# Altium integrated library National Semiconductor Switcher.IntLib: 2226 symbols (part 25 of 59)
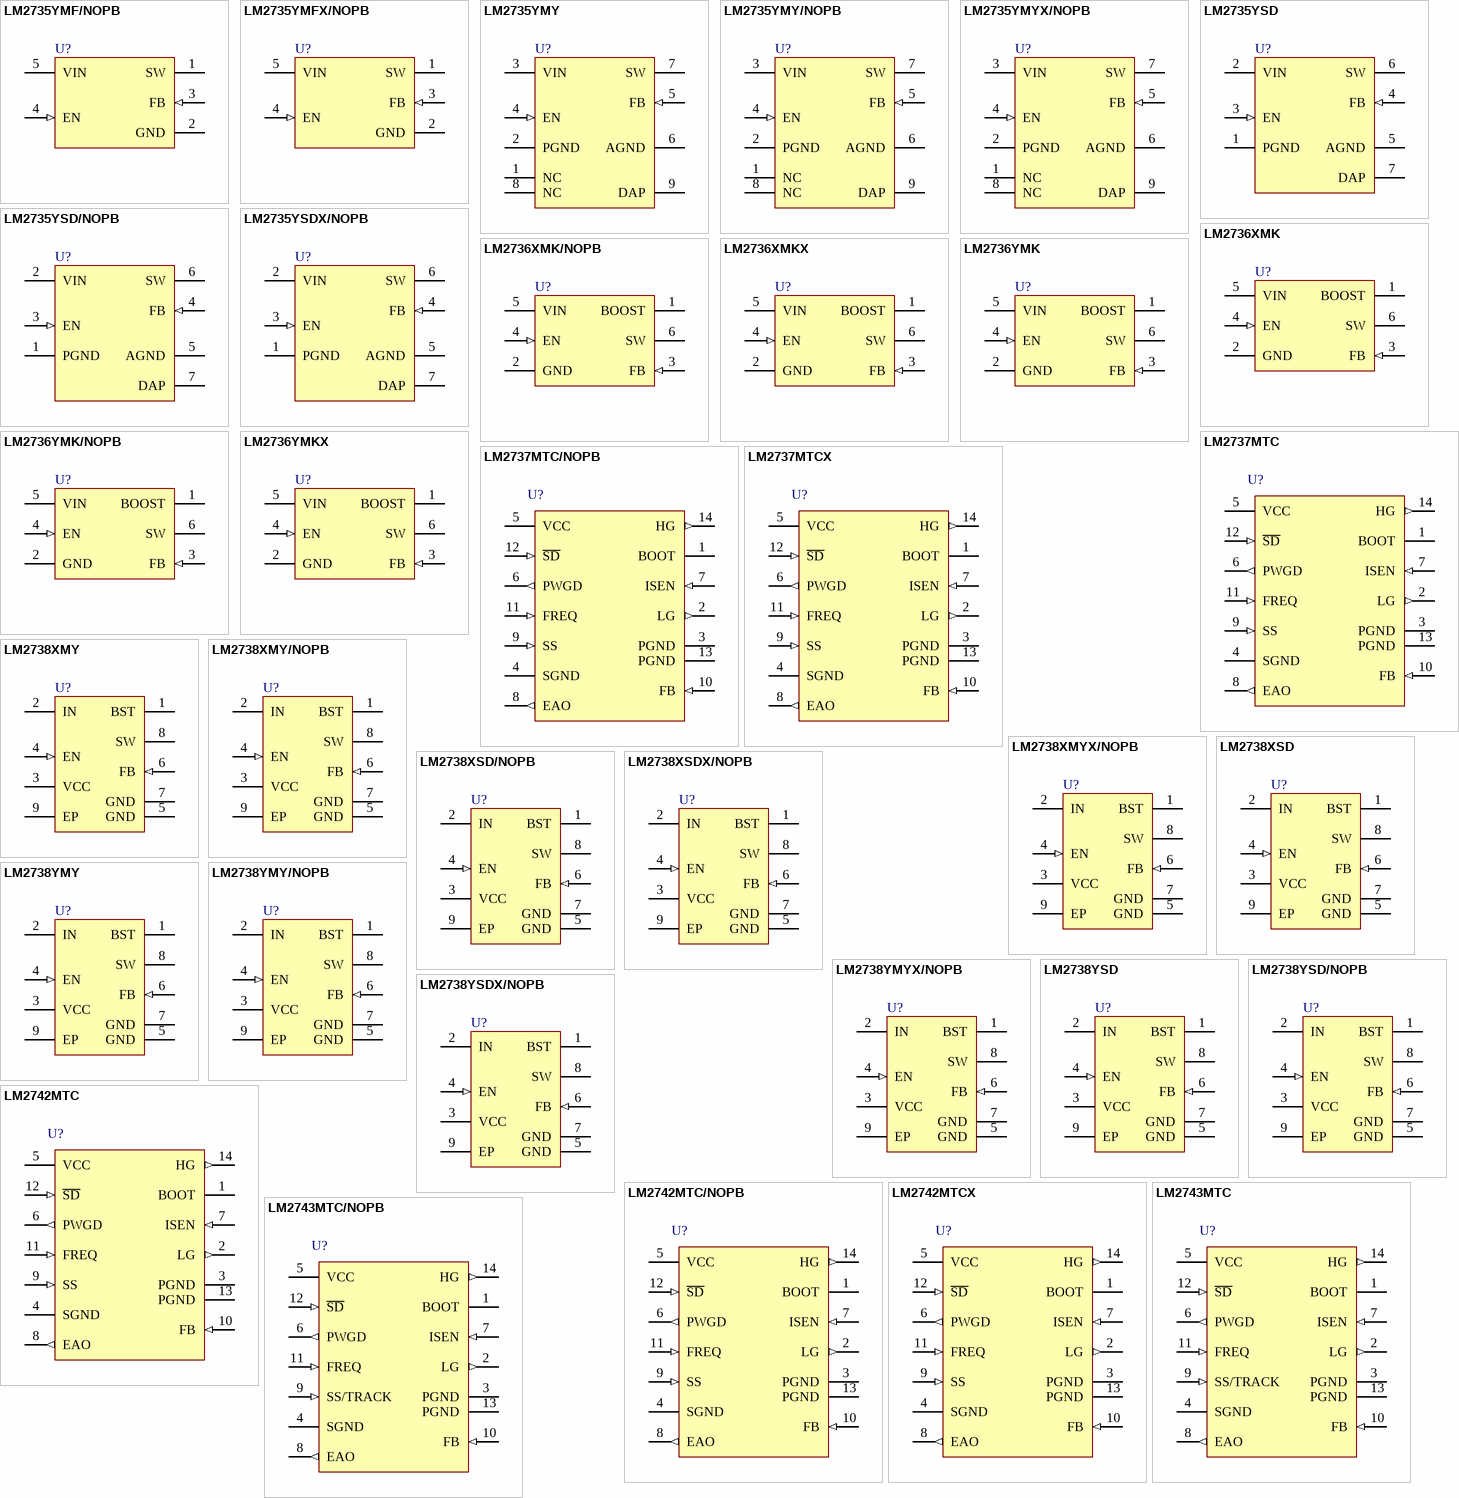
[diagram p93: symbols LM2735YMF/NOPB to LM2743MTC/NOPB]

## LM2743MTC
designator U?
Low Voltage N-Channel MOSFET Synchronous Buck Regulator Controller, 14-pin TSSOP; PartNumber: LM2743MTC; Manufacturer: National Semiconductor; PackageTopMarking: NSZXYTT*2743*MTC; PowerWise: Y; CompType: Switcher; DatasheetVersion: Feb-2005; PackageVersion: revD, Jun-2003; PackageReference: MTC14; PackageDescription: Molded TSSOP, JEDEC, 5 x 4.4 x 0.9mm Body, 14 Lead, 0.65mm Pitch; RoHS: N; PinCount: 14; High-Reliability: Y; Code_JEDEC: MO-153-AB-1; ComponentLink1Description: Manufacturer URL; ComponentLink1URL: http://www.national.com/; ComponentLink2Description: LM2743 Datasheet; ComponentLink2URL: http://www.national.com/ds/LM/LM2743.pdf; ComponentLink3Description: LM2743 Web Page; ComponentLink3URL: http://www.national.com/pf/LM/LM2743.html; ComponentLink4Description: MTC14 Package Page; ComponentLink4URL: http://www.national.com/packaging/folders/mtc14.html
footprint MTC14_N (TSOP, 14-Leads, Body 5x4.4mm, Pitch 0.65mm, IPC Medium Density)
footprint MTC14_L (TSOP, 14-Leads, Body 5x4.4mm, Pitch 0.65mm, IPC High Density)
footprint MTC14_M (TSOP, 14-Leads, Body 5x4.4mm, Pitch 0.65mm, IPC Low Density)
pins: 1 BOOT, 2 LG (out), 3 PGND (power), 4 SGND (power), 5 VCC (power), 6 PWGD (out), 7 ISEN (in), 8 EAO (out), 9 SS/TRACK (in), 10 FB (in), 11 FREQ (in), 12 ~{SD} (in), 13 PGND (power), 14 HG (out)

## LM2743MTC/NOPB
designator U?
Low Voltage N-Channel MOSFET Synchronous Buck Regulator Controller, 14-pin TSSOP, Pb-Free; PartNumber: LM2743MTC/NOPB; Manufacturer: National Semiconductor; PackageTopMarking: NSZXYTT*2743*MTC; PowerWise: Y; CompType: Switcher; DatasheetVersion: Feb-2005; PackageVersion: revD, Jun-2003; PackageReference: MTC14; PackageDescription: Molded TSSOP, JEDEC, 5 x 4.4 x 0.9mm Body, 14 Lead, 0.65mm Pitch; RoHS: Y; PinCount: 14; High-Reliability: Y; Code_JEDEC: MO-153-AB-1; ComponentLink1Description: Manufacturer URL; ComponentLink1URL: http://www.national.com/; ComponentLink2Description: LM2743 Datasheet; ComponentLink2URL: http://www.national.com/ds/LM/LM2743.pdf; ComponentLink3Description: LM2743 Web Page; ComponentLink3URL: http://www.national.com/pf/LM/LM2743.html; ComponentLink4Description: MTC14 Package Page; ComponentLink4URL: http://www.national.com/packaging/folders/mtc14.html
footprint MTC14_N (TSOP, 14-Leads, Body 5x4.4mm, Pitch 0.65mm, IPC Medium Density)
footprint MTC14_L (TSOP, 14-Leads, Body 5x4.4mm, Pitch 0.65mm, IPC High Density)
footprint MTC14_M (TSOP, 14-Leads, Body 5x4.4mm, Pitch 0.65mm, IPC Low Density)
pins: 1 BOOT, 2 LG (out), 3 PGND (power), 4 SGND (power), 5 VCC (power), 6 PWGD (out), 7 ISEN (in), 8 EAO (out), 9 SS/TRACK (in), 10 FB (in), 11 FREQ (in), 12 ~{SD} (in), 13 PGND (power), 14 HG (out)

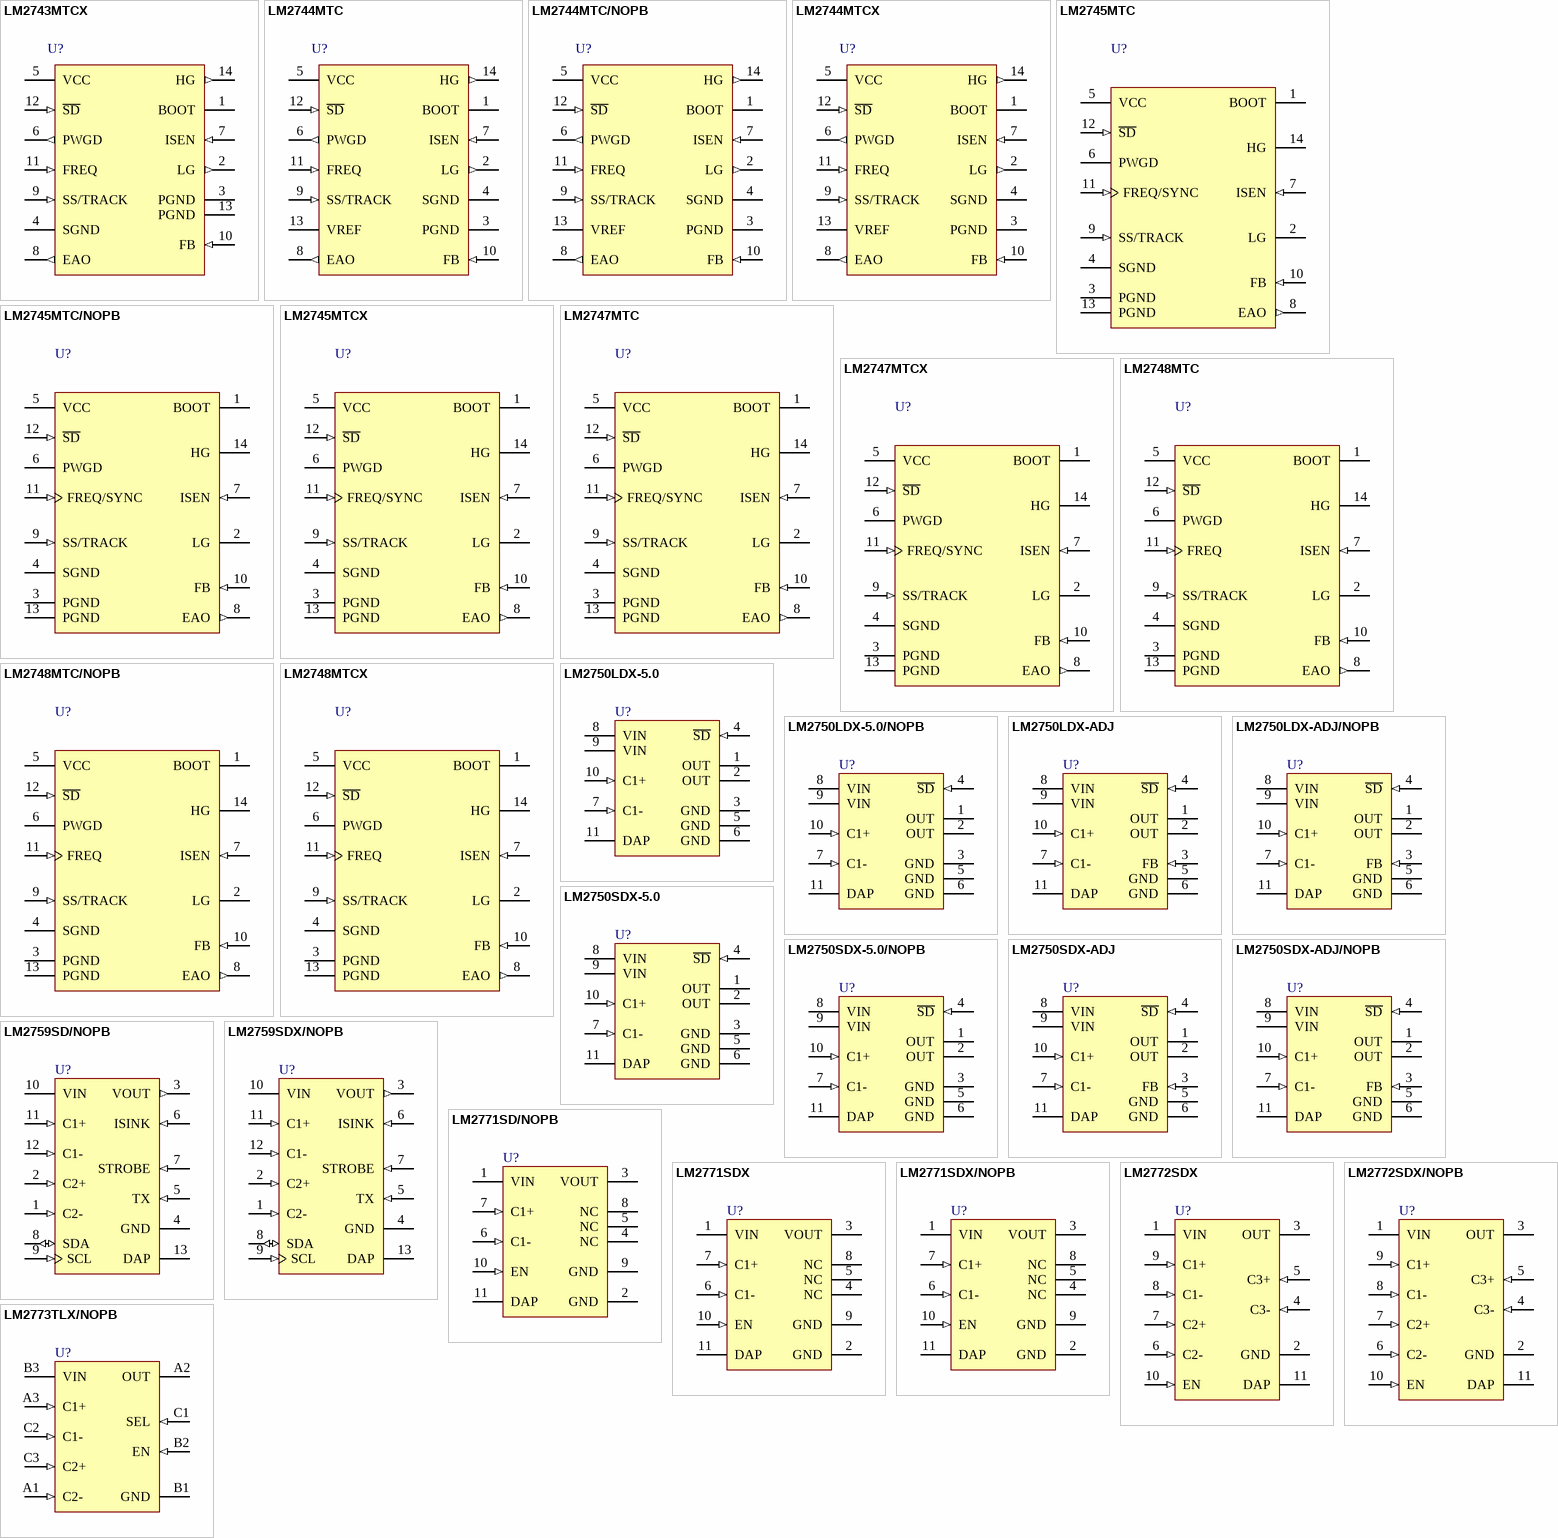
[diagram p26: symbols LM2743MTCX to LM2773TLX/NOPB]

## LM2743MTCX
designator U?
Low Voltage N-Channel MOSFET Synchronous Buck Regulator Controller, 14-pin TSSOP; PartNumber: LM2743MTCX; Manufacturer: National Semiconductor; PackageTopMarking: NSZXYTT*2743*MTC; PowerWise: Y; CompType: Switcher; DatasheetVersion: Feb-2005; PackageVersion: revD, Jun-2003; PackageReference: MTC14; PackageDescription: Molded TSSOP, JEDEC, 5 x 4.4 x 0.9mm Body, 14 Lead, 0.65mm Pitch; RoHS: N; PinCount: 14; High-Reliability: Y; Code_JEDEC: MO-153-AB-1; ComponentLink1Description: Manufacturer URL; ComponentLink1URL: http://www.national.com/; ComponentLink2Description: LM2743 Datasheet; ComponentLink2URL: http://www.national.com/ds/LM/LM2743.pdf; ComponentLink3Description: LM2743 Web Page; ComponentLink3URL: http://www.national.com/pf/LM/LM2743.html; ComponentLink4Description: MTC14 Package Page; ComponentLink4URL: http://www.national.com/packaging/folders/mtc14.html
footprint MTC14_N (TSOP, 14-Leads, Body 5x4.4mm, Pitch 0.65mm, IPC Medium Density)
footprint MTC14_L (TSOP, 14-Leads, Body 5x4.4mm, Pitch 0.65mm, IPC High Density)
footprint MTC14_M (TSOP, 14-Leads, Body 5x4.4mm, Pitch 0.65mm, IPC Low Density)
pins: 1 BOOT, 2 LG (out), 3 PGND (power), 4 SGND (power), 5 VCC (power), 6 PWGD (out), 7 ISEN (in), 8 EAO (out), 9 SS/TRACK (in), 10 FB (in), 11 FREQ (in), 12 ~{SD} (in), 13 PGND (power), 14 HG (out)

## LM2744MTC
designator U?
Low Voltage N-Channel MOSFET Synchronous Buck Regulator Controller with External Reference, 14-pin TSSOP; PartNumber: LM2744MTC; Manufacturer: National Semiconductor; PackageTopMarking: NSZXYTT*2744*MTC; PowerWise: Y; CompType: Switcher; DatasheetVersion: Apr-2007; PackageVersion: revD, Jun-2003; PackageReference: MTC14; PackageDescription: Molded TSSOP, JEDEC, 5 x 4.4 x 0.9mm Body, 14 Lead, 0.65mm Pitch; RoHS: N; PinCount: 14; High-Reliability: Y; Code_JEDEC: MO-153-AB-1; ComponentLink1Description: Manufacturer URL; ComponentLink1URL: http://www.national.com/; ComponentLink2Description: LM2744 Datasheet; ComponentLink2URL: http://www.national.com/ds/LM/LM2744.pdf; ComponentLink3Description: LM2744 Web Page; ComponentLink3URL: http://www.national.com/pf/LM/LM2744.html; ComponentLink4Description: MTC14 Package Page; ComponentLink4URL: http://www.national.com/packaging/folders/mtc14.html
footprint MTC14_N (TSOP, 14-Leads, Body 5x4.4mm, Pitch 0.65mm, IPC Medium Density)
footprint MTC14_L (TSOP, 14-Leads, Body 5x4.4mm, Pitch 0.65mm, IPC High Density)
footprint MTC14_M (TSOP, 14-Leads, Body 5x4.4mm, Pitch 0.65mm, IPC Low Density)
pins: 1 BOOT, 2 LG (out), 3 PGND (power), 4 SGND (power), 5 VCC (power), 6 PWGD (out), 7 ISEN (in), 8 EAO (out), 9 SS/TRACK (in), 10 FB (in), 11 FREQ (in), 12 ~{SD} (in), 13 VREF (power), 14 HG (out)

## LM2744MTC/NOPB
designator U?
Low Voltage N-Channel MOSFET Synchronous Buck Regulator Controller with External Reference, 14-pin TSSOP, Pb-Free; PartNumber: LM2744MTC/NOPB; Manufacturer: National Semiconductor; PackageTopMarking: NSZXYTT*2744*MTC; PowerWise: Y; CompType: Switcher; DatasheetVersion: Apr-2007; PackageVersion: revD, Jun-2003; PackageReference: MTC14; PackageDescription: Molded TSSOP, JEDEC, 5 x 4.4 x 0.9mm Body, 14 Lead, 0.65mm Pitch; RoHS: Y; PinCount: 14; High-Reliability: Y; Code_JEDEC: MO-153-AB-1; ComponentLink1Description: Manufacturer URL; ComponentLink1URL: http://www.national.com/; ComponentLink2Description: LM2744 Datasheet; ComponentLink2URL: http://www.national.com/ds/LM/LM2744.pdf; ComponentLink3Description: LM2744 Web Page; ComponentLink3URL: http://www.national.com/pf/LM/LM2744.html; ComponentLink4Description: MTC14 Package Page; ComponentLink4URL: http://www.national.com/packaging/folders/mtc14.html
footprint MTC14_N (TSOP, 14-Leads, Body 5x4.4mm, Pitch 0.65mm, IPC Medium Density)
footprint MTC14_L (TSOP, 14-Leads, Body 5x4.4mm, Pitch 0.65mm, IPC High Density)
footprint MTC14_M (TSOP, 14-Leads, Body 5x4.4mm, Pitch 0.65mm, IPC Low Density)
pins: 1 BOOT, 2 LG (out), 3 PGND (power), 4 SGND (power), 5 VCC (power), 6 PWGD (out), 7 ISEN (in), 8 EAO (out), 9 SS/TRACK (in), 10 FB (in), 11 FREQ (in), 12 ~{SD} (in), 13 VREF (power), 14 HG (out)

## LM2744MTCX
designator U?
Low Voltage N-Channel MOSFET Synchronous Buck Regulator Controller with External Reference, 14-pin TSSOP; PartNumber: LM2744MTCX; Manufacturer: National Semiconductor; PackageTopMarking: NSZXYTT*2744*MTC; PowerWise: Y; CompType: Switcher; DatasheetVersion: Apr-2007; PackageVersion: revD, Jun-2003; PackageReference: MTC14; PackageDescription: Molded TSSOP, JEDEC, 5 x 4.4 x 0.9mm Body, 14 Lead, 0.65mm Pitch; RoHS: N; PinCount: 14; High-Reliability: Y; Code_JEDEC: MO-153-AB-1; ComponentLink1Description: Manufacturer URL; ComponentLink1URL: http://www.national.com/; ComponentLink2Description: LM2744 Datasheet; ComponentLink2URL: http://www.national.com/ds/LM/LM2744.pdf; ComponentLink3Description: LM2744 Web Page; ComponentLink3URL: http://www.national.com/pf/LM/LM2744.html; ComponentLink4Description: MTC14 Package Page; ComponentLink4URL: http://www.national.com/packaging/folders/mtc14.html
footprint MTC14_N (TSOP, 14-Leads, Body 5x4.4mm, Pitch 0.65mm, IPC Medium Density)
footprint MTC14_L (TSOP, 14-Leads, Body 5x4.4mm, Pitch 0.65mm, IPC High Density)
footprint MTC14_M (TSOP, 14-Leads, Body 5x4.4mm, Pitch 0.65mm, IPC Low Density)
pins: 1 BOOT, 2 LG (out), 3 PGND (power), 4 SGND (power), 5 VCC (power), 6 PWGD (out), 7 ISEN (in), 8 EAO (out), 9 SS/TRACK (in), 10 FB (in), 11 FREQ (in), 12 ~{SD} (in), 13 VREF (power), 14 HG (out)

## LM2745MTC
designator U?
Synchronous Buck Controller with Pre-bias Startup, and Optional Clock Synchronization, 14-pin TSSOP; PartNumber: LM2745MTC; Manufacturer: National Semiconductor; PackageTopMarking: NSUZXYTT*2745*MTC; PowerWise: Y; CompType: Switcher; DatasheetVersion: Jan-2009; PackageVersion: revD, Jun-2003; PackageReference: MTC14; PackageDescription: Molded TSSOP, JEDEC, 5 x 4.4 x 0.9mm Body, 14 Lead, 0.65mm Pitch; RoHS: N; PinCount: 14; High-Reliability: Y; Code_JEDEC: MO-153-AB-1; ComponentLink1Description: Manufacturer URL; ComponentLink1URL: http://www.national.com/; ComponentLink2Description: LM2745 Datasheet; ComponentLink2URL: http://www.national.com/ds/LM/LM2745.pdf; ComponentLink3Description: LM2745 Web Page; ComponentLink3URL: http://www.national.com/pf/LM/LM2745.html; ComponentLink4Description: MTC14 Package Page; ComponentLink4URL: http://www.national.com/packaging/folders/mtc14.html
footprint MTC14_N (TSOP, 14-Leads, Body 5x4.4mm, Pitch 0.65mm, IPC Medium Density)
footprint MTC14_L (TSOP, 14-Leads, Body 5x4.4mm, Pitch 0.65mm, IPC High Density)
footprint MTC14_M (TSOP, 14-Leads, Body 5x4.4mm, Pitch 0.65mm, IPC Low Density)
pins: 1 BOOT, 2 LG (power), 3 PGND (power), 4 SGND (power), 5 VCC (power), 6 PWGD (oc), 7 ISEN (in), 8 EAO (out), 9 SS/TRACK (in), 10 FB (in), 11 FREQ/SYNC (in), 12 ~{SD} (in), 13 PGND (power), 14 HG (power)

## LM2745MTC/NOPB
designator U?
Synchronous Buck Controller with Pre-bias Startup, and Optional Clock Synchronization, 14-pin TSSOP, Pb-Free; PartNumber: LM2745MTC/NOPB; Manufacturer: National Semiconductor; PackageTopMarking: NSUZXYTT*2745*MTC; PowerWise: Y; CompType: Switcher; DatasheetVersion: Jan-2009; PackageVersion: revD, Jun-2003; PackageReference: MTC14; PackageDescription: Molded TSSOP, JEDEC, 5 x 4.4 x 0.9mm Body, 14 Lead, 0.65mm Pitch; RoHS: Y; PinCount: 14; High-Reliability: Y; Code_JEDEC: MO-153-AB-1; ComponentLink1Description: Manufacturer URL; ComponentLink1URL: http://www.national.com/; ComponentLink2Description: LM2745 Datasheet; ComponentLink2URL: http://www.national.com/ds/LM/LM2745.pdf; ComponentLink3Description: LM2745 Web Page; ComponentLink3URL: http://www.national.com/pf/LM/LM2745.html; ComponentLink4Description: MTC14 Package Page; ComponentLink4URL: http://www.national.com/packaging/folders/mtc14.html
footprint MTC14_N (TSOP, 14-Leads, Body 5x4.4mm, Pitch 0.65mm, IPC Medium Density)
footprint MTC14_L (TSOP, 14-Leads, Body 5x4.4mm, Pitch 0.65mm, IPC High Density)
footprint MTC14_M (TSOP, 14-Leads, Body 5x4.4mm, Pitch 0.65mm, IPC Low Density)
pins: 1 BOOT, 2 LG (power), 3 PGND (power), 4 SGND (power), 5 VCC (power), 6 PWGD (oc), 7 ISEN (in), 8 EAO (out), 9 SS/TRACK (in), 10 FB (in), 11 FREQ/SYNC (in), 12 ~{SD} (in), 13 PGND (power), 14 HG (power)

## LM2745MTCX
designator U?
Synchronous Buck Controller with Pre-bias Startup, and Optional Clock Synchronization, 14-pin TSSOP; PartNumber: LM2745MTCX; Manufacturer: National Semiconductor; PackageTopMarking: NSUZXYTT*2745*MTC; PowerWise: Y; CompType: Switcher; DatasheetVersion: Jan-2009; PackageVersion: revD, Jun-2003; PackageReference: MTC14; PackageDescription: Molded TSSOP, JEDEC, 5 x 4.4 x 0.9mm Body, 14 Lead, 0.65mm Pitch; RoHS: N; PinCount: 14; High-Reliability: Y; Code_JEDEC: MO-153-AB-1; ComponentLink1Description: Manufacturer URL; ComponentLink1URL: http://www.national.com/; ComponentLink2Description: LM2745 Datasheet; ComponentLink2URL: http://www.national.com/ds/LM/LM2745.pdf; ComponentLink3Description: LM2745 Web Page; ComponentLink3URL: http://www.national.com/pf/LM/LM2745.html; ComponentLink4Description: MTC14 Package Page; ComponentLink4URL: http://www.national.com/packaging/folders/mtc14.html
footprint MTC14_N (TSOP, 14-Leads, Body 5x4.4mm, Pitch 0.65mm, IPC Medium Density)
footprint MTC14_L (TSOP, 14-Leads, Body 5x4.4mm, Pitch 0.65mm, IPC High Density)
footprint MTC14_M (TSOP, 14-Leads, Body 5x4.4mm, Pitch 0.65mm, IPC Low Density)
pins: 1 BOOT, 2 LG (power), 3 PGND (power), 4 SGND (power), 5 VCC (power), 6 PWGD (oc), 7 ISEN (in), 8 EAO (out), 9 SS/TRACK (in), 10 FB (in), 11 FREQ/SYNC (in), 12 ~{SD} (in), 13 PGND (power), 14 HG (power)

## LM2747MTC
designator U?
Synchronous Buck Controller with Pre-bias Startup, and Optional Clock Synchronization, 14-pin TSSOP; PartNumber: LM2747MTC; Manufacturer: National Semiconductor; PackageTopMarking: NSUZXYTT*2747*MTC; PowerWise: Y; CompType: Switcher; DatasheetVersion: Mar-2006; PackageVersion: revD, Jun-2003; PackageReference: MTC14; PackageDescription: Molded TSSOP, JEDEC, 5 x 4.4 x 0.9mm Body, 14 Lead, 0.65mm Pitch; RoHS: N; PinCount: 14; High-Reliability: Y; Code_JEDEC: MO-153-AB-1; ComponentLink1Description: Manufacturer URL; ComponentLink1URL: http://www.national.com/; ComponentLink2Description: LM2747 Datasheet; ComponentLink2URL: http://www.national.com/ds/LM/LM2747.pdf; ComponentLink3Description: LM2747 Web Page; ComponentLink3URL: http://www.national.com/pf/LM/LM2747.html; ComponentLink4Description: MTC14 Package Page; ComponentLink4URL: http://www.national.com/packaging/folders/mtc14.html
footprint MTC14_N (TSOP, 14-Leads, Body 5x4.4mm, Pitch 0.65mm, IPC Medium Density)
footprint MTC14_L (TSOP, 14-Leads, Body 5x4.4mm, Pitch 0.65mm, IPC High Density)
footprint MTC14_M (TSOP, 14-Leads, Body 5x4.4mm, Pitch 0.65mm, IPC Low Density)
pins: 1 BOOT, 2 LG (power), 3 PGND (power), 4 SGND (power), 5 VCC (power), 6 PWGD (oc), 7 ISEN (in), 8 EAO (out), 9 SS/TRACK (in), 10 FB (in), 11 FREQ/SYNC (in), 12 ~{SD} (in), 13 PGND (power), 14 HG (power)

## LM2747MTCX
designator U?
Synchronous Buck Controller with Pre-bias Startup, and Optional Clock Synchronization, 14-pin TSSOP; PartNumber: LM2747MTCX; Manufacturer: National Semiconductor; PackageTopMarking: NSUZXYTT*2747*MTC; PowerWise: Y; CompType: Switcher; DatasheetVersion: Mar-2006; PackageVersion: revD, Jun-2003; PackageReference: MTC14; PackageDescription: Molded TSSOP, JEDEC, 5 x 4.4 x 0.9mm Body, 14 Lead, 0.65mm Pitch; RoHS: N; PinCount: 14; High-Reliability: Y; Code_JEDEC: MO-153-AB-1; ComponentLink1Description: Manufacturer URL; ComponentLink1URL: http://www.national.com/; ComponentLink2Description: LM2747 Datasheet; ComponentLink2URL: http://www.national.com/ds/LM/LM2747.pdf; ComponentLink3Description: LM2747 Web Page; ComponentLink3URL: http://www.national.com/pf/LM/LM2747.html; ComponentLink4Description: MTC14 Package Page; ComponentLink4URL: http://www.national.com/packaging/folders/mtc14.html
footprint MTC14_N (TSOP, 14-Leads, Body 5x4.4mm, Pitch 0.65mm, IPC Medium Density)
footprint MTC14_L (TSOP, 14-Leads, Body 5x4.4mm, Pitch 0.65mm, IPC High Density)
footprint MTC14_M (TSOP, 14-Leads, Body 5x4.4mm, Pitch 0.65mm, IPC Low Density)
pins: 1 BOOT, 2 LG (power), 3 PGND (power), 4 SGND (power), 5 VCC (power), 6 PWGD (oc), 7 ISEN (in), 8 EAO (out), 9 SS/TRACK (in), 10 FB (in), 11 FREQ/SYNC (in), 12 ~{SD} (in), 13 PGND (power), 14 HG (power)

## LM2748MTC
designator U?
Synchronous Buck Controller with Pre-bias Startup, and Optional Clock Synchronization, 14-pin TSSOP; PartNumber: LM2748MTC; Manufacturer: National Semiconductor; PackageTopMarking: NSUZXYTT*2748*MTC; PowerWise: Y; CompType: Switcher; DatasheetVersion: Jan-2009; PackageVersion: revD, Jun-2003; PackageReference: MTC14; PackageDescription: Molded TSSOP, JEDEC, 5 x 4.4 x 0.9mm Body, 14 Lead, 0.65mm Pitch; RoHS: N; PinCount: 14; High-Reliability: Y; Code_JEDEC: MO-153-AB-1; ComponentLink1Description: Manufacturer URL; ComponentLink1URL: http://www.national.com/; ComponentLink2Description: LM2748 Datasheet; ComponentLink2URL: http://www.national.com/ds/LM/LM2748.pdf; ComponentLink3Description: LM2748 Web Page; ComponentLink3URL: http://www.national.com/pf/LM/LM2748.html; ComponentLink4Description: MTC14 Package Page; ComponentLink4URL: http://www.national.com/packaging/folders/mtc14.html
footprint MTC14_N (TSOP, 14-Leads, Body 5x4.4mm, Pitch 0.65mm, IPC Medium Density)
footprint MTC14_L (TSOP, 14-Leads, Body 5x4.4mm, Pitch 0.65mm, IPC High Density)
footprint MTC14_M (TSOP, 14-Leads, Body 5x4.4mm, Pitch 0.65mm, IPC Low Density)
pins: 1 BOOT, 2 LG (power), 3 PGND (power), 4 SGND (power), 5 VCC (power), 6 PWGD (oc), 7 ISEN (in), 8 EAO (out), 9 SS/TRACK (in), 10 FB (in), 11 FREQ (in), 12 ~{SD} (in), 13 PGND (power), 14 HG (power)

## LM2748MTC/NOPB
designator U?
Synchronous Buck Controller with Pre-bias Startup, and Optional Clock Synchronization, 14-pin TSSOP, Pb-Free; PartNumber: LM2748MTC/NOPB; Manufacturer: National Semiconductor; PackageTopMarking: NSUZXYTT*2748*MTC; PowerWise: Y; CompType: Switcher; DatasheetVersion: Jan-2009; PackageVersion: revD, Jun-2003; PackageReference: MTC14; PackageDescription: Molded TSSOP, JEDEC, 5 x 4.4 x 0.9mm Body, 14 Lead, 0.65mm Pitch; RoHS: Y; PinCount: 14; High-Reliability: Y; Code_JEDEC: MO-153-AB-1; ComponentLink1Description: Manufacturer URL; ComponentLink1URL: http://www.national.com/; ComponentLink2Description: LM2748 Datasheet; ComponentLink2URL: http://www.national.com/ds/LM/LM2748.pdf; ComponentLink3Description: LM2748 Web Page; ComponentLink3URL: http://www.national.com/pf/LM/LM2748.html; ComponentLink4Description: MTC14 Package Page; ComponentLink4URL: http://www.national.com/packaging/folders/mtc14.html
footprint MTC14_N (TSOP, 14-Leads, Body 5x4.4mm, Pitch 0.65mm, IPC Medium Density)
footprint MTC14_L (TSOP, 14-Leads, Body 5x4.4mm, Pitch 0.65mm, IPC High Density)
footprint MTC14_M (TSOP, 14-Leads, Body 5x4.4mm, Pitch 0.65mm, IPC Low Density)
pins: 1 BOOT, 2 LG (power), 3 PGND (power), 4 SGND (power), 5 VCC (power), 6 PWGD (oc), 7 ISEN (in), 8 EAO (out), 9 SS/TRACK (in), 10 FB (in), 11 FREQ (in), 12 ~{SD} (in), 13 PGND (power), 14 HG (power)

## LM2748MTCX
designator U?
Synchronous Buck Controller with Pre-bias Startup, and Optional Clock Synchronization, 14-pin TSSOP; PartNumber: LM2748MTCX; Manufacturer: National Semiconductor; PackageTopMarking: NSUZXYTT*2748*MTC; PowerWise: Y; CompType: Switcher; DatasheetVersion: Jan-2009; PackageVersion: revD, Jun-2003; PackageReference: MTC14; PackageDescription: Molded TSSOP, JEDEC, 5 x 4.4 x 0.9mm Body, 14 Lead, 0.65mm Pitch; RoHS: N; PinCount: 14; High-Reliability: Y; Code_JEDEC: MO-153-AB-1; ComponentLink1Description: Manufacturer URL; ComponentLink1URL: http://www.national.com/; ComponentLink2Description: LM2748 Datasheet; ComponentLink2URL: http://www.national.com/ds/LM/LM2748.pdf; ComponentLink3Description: LM2748 Web Page; ComponentLink3URL: http://www.national.com/pf/LM/LM2748.html; ComponentLink4Description: MTC14 Package Page; ComponentLink4URL: http://www.national.com/packaging/folders/mtc14.html
footprint MTC14_N (TSOP, 14-Leads, Body 5x4.4mm, Pitch 0.65mm, IPC Medium Density)
footprint MTC14_L (TSOP, 14-Leads, Body 5x4.4mm, Pitch 0.65mm, IPC High Density)
footprint MTC14_M (TSOP, 14-Leads, Body 5x4.4mm, Pitch 0.65mm, IPC Low Density)
pins: 1 BOOT, 2 LG (power), 3 PGND (power), 4 SGND (power), 5 VCC (power), 6 PWGD (oc), 7 ISEN (in), 8 EAO (out), 9 SS/TRACK (in), 10 FB (in), 11 FREQ (in), 12 ~{SD} (in), 13 PGND (power), 14 HG (power)

## LM2750LDX-5.0
designator U?
Low Noise Regulator Switched Capacitor Boost Regulator, 10-pin LLP; PartNumber: LM2750LDX-5.0; Manufacturer: National Semiconductor; PackageTopMarking: ZXYTT*S002B; PowerWise: N; CompType: Switcher; High-Reliability: Y; DatasheetVersion: Dec-2005; PackageVersion: revB, Jan-2003; PackageReference: LDA10A; PackageDescription: LLP, Plastic, Dual, 3 x 3 x 0.75mm Body, 10 Lead, 0.5mm Pitch; RoHS: N; PinCount: 10; ComponentLink1Description: Manufacturer URL; ComponentLink1URL: http://www.national.com/; ComponentLink2Description: LM2750 Datasheet; ComponentLink2URL: http://www.national.com/ds/LM/LM2750.pdf; ComponentLink3Description: LM2750 Web Page; ComponentLink3URL: http://www.national.com/pf/LM/LM2750.html; ComponentLink4Description: LDA10A Package Page; ComponentLink4URL: http://www.national.com/packaging/folders/lda10a.html
footprint LDA10A (PSON, 10-Leads, Body 3x3mm, Pitch 0.5mm, NSC Recommended)
pins: 1 OUT (power), 2 OUT (power), 3 GND (power), 4 ~{SD} (in), 5 GND (power), 6 GND (power), 7 C1- (in), 8 VIN (power), 9 VIN (power), 10 C1+ (in), 11 DAP (power)

## LM2750LDX-5.0/NOPB
designator U?
Low Noise Regulator Switched Capacitor Boost Regulator, 10-pin LLP, Pb-Free; PartNumber: LM2750LDX-5.0/NOPB; Manufacturer: National Semiconductor; PackageTopMarking: ZXYTT*S002B; PowerWise: N; CompType: Switcher; High-Reliability: Y; DatasheetVersion: Dec-2005; PackageVersion: revB, Jan-2003; PackageReference: LDA10A; PackageDescription: LLP, Plastic, Dual, 3 x 3 x 0.75mm Body, 10 Lead, 0.5mm Pitch; RoHS: Y; PinCount: 10; ComponentLink1Description: Manufacturer URL; ComponentLink1URL: http://www.national.com/; ComponentLink2Description: LM2750 Datasheet; ComponentLink2URL: http://www.national.com/ds/LM/LM2750.pdf; ComponentLink3Description: LM2750 Web Page; ComponentLink3URL: http://www.national.com/pf/LM/LM2750.html; ComponentLink4Description: LDA10A Package Page; ComponentLink4URL: http://www.national.com/packaging/folders/lda10a.html
footprint LDA10A (PSON, 10-Leads, Body 3x3mm, Pitch 0.5mm, NSC Recommended)
pins: 1 OUT (power), 2 OUT (power), 3 GND (power), 4 ~{SD} (in), 5 GND (power), 6 GND (power), 7 C1- (in), 8 VIN (power), 9 VIN (power), 10 C1+ (in), 11 DAP (power)

## LM2750LDX-ADJ
designator U?
Low Noise Regulator Switched Capacitor Boost Regulator, 10-pin LLP; PartNumber: LM2750LDX-ADJ; Manufacturer: National Semiconductor; PackageTopMarking: ZXYTT*S003B; PowerWise: N; CompType: Switcher; High-Reliability: Y; DatasheetVersion: Dec-2005; PackageVersion: revB, Jan-2003; PackageReference: LDA10A; PackageDescription: LLP, Plastic, Dual, 3 x 3 x 0.75mm Body, 10 Lead, 0.5mm Pitch; RoHS: N; PinCount: 10; ComponentLink1Description: Manufacturer URL; ComponentLink1URL: http://www.national.com/; ComponentLink2Description: LM2750 Datasheet; ComponentLink2URL: http://www.national.com/ds/LM/LM2750.pdf; ComponentLink3Description: LM2750 Web Page; ComponentLink3URL: http://www.national.com/pf/LM/LM2750.html; ComponentLink4Description: LDA10A Package Page; ComponentLink4URL: http://www.national.com/packaging/folders/lda10a.html
footprint LDA10A (PSON, 10-Leads, Body 3x3mm, Pitch 0.5mm, NSC Recommended)
pins: 1 OUT (power), 2 OUT (power), 3 FB (in), 4 ~{SD} (in), 5 GND (power), 6 GND (power), 7 C1- (in), 8 VIN (power), 9 VIN (power), 10 C1+ (in), 11 DAP (power)

## LM2750LDX-ADJ/NOPB
designator U?
Low Noise Regulator Switched Capacitor Boost Regulator, 10-pin LLP, Pb-Free; PartNumber: LM2750LDX-ADJ/NOPB; Manufacturer: National Semiconductor; PackageTopMarking: ZXYTT*S003B; PowerWise: N; CompType: Switcher; High-Reliability: Y; DatasheetVersion: Dec-2005; PackageVersion: revB, Jan-2003; PackageReference: LDA10A; PackageDescription: LLP, Plastic, Dual, 3 x 3 x 0.75mm Body, 10 Lead, 0.5mm Pitch; RoHS: Y; PinCount: 10; ComponentLink1Description: Manufacturer URL; ComponentLink1URL: http://www.national.com/; ComponentLink2Description: LM2750 Datasheet; ComponentLink2URL: http://www.national.com/ds/LM/LM2750.pdf; ComponentLink3Description: LM2750 Web Page; ComponentLink3URL: http://www.national.com/pf/LM/LM2750.html; ComponentLink4Description: LDA10A Package Page; ComponentLink4URL: http://www.national.com/packaging/folders/lda10a.html
footprint LDA10A (PSON, 10-Leads, Body 3x3mm, Pitch 0.5mm, NSC Recommended)
pins: 1 OUT (power), 2 OUT (power), 3 FB (in), 4 ~{SD} (in), 5 GND (power), 6 GND (power), 7 C1- (in), 8 VIN (power), 9 VIN (power), 10 C1+ (in), 11 DAP (power)

## LM2750SDX-5.0
designator U?
Low Noise Regulator Switched Capacitor Boost Regulator, 10-pin LLP; PartNumber: LM2750SDX-5.0; Manufacturer: National Semiconductor; PackageTopMarking: ZXYTT*S005B; PowerWise: N; CompType: Switcher; High-Reliability: Y; DatasheetVersion: Dec-2005; PackageVersion: revA, Oct-2003; PackageReference: SDA10A; PackageDescription: LLP, Plastic, Dual, 3 x 3 x 0.8mm Body, 10 Lead, 0.5mm Pitch, No Pullback; RoHS: N; PinCount: 10; ComponentLink1Description: Manufacturer URL; ComponentLink1URL: http://www.national.com/; ComponentLink2Description: LM2750 Datasheet; ComponentLink2URL: http://www.national.com/ds/LM/LM2750.pdf; ComponentLink3Description: LM2750 Web Page; ComponentLink3URL: http://www.national.com/pf/LM/LM2750.html; ComponentLink4Description: SDA10A Package Page; ComponentLink4URL: http://www.national.com/packaging/folders/sda10a.html
footprint SDA10A (SON, 10-Leads, Body 3x3 mm, Pitch 0.5mm, NSC Recommended)
pins: 1 OUT (power), 2 OUT (power), 3 GND (power), 4 ~{SD} (in), 5 GND (power), 6 GND (power), 7 C1- (in), 8 VIN (power), 9 VIN (power), 10 C1+ (in), 11 DAP (power)

## LM2750SDX-5.0/NOPB
designator U?
Low Noise Regulator Switched Capacitor Boost Regulator, 10-pin LLP, Pb-Free; PartNumber: LM2750SDX-5.0/NOPB; Manufacturer: National Semiconductor; PackageTopMarking: ZXYTT*S005B; PowerWise: N; CompType: Switcher; High-Reliability: Y; DatasheetVersion: Dec-2005; PackageVersion: revA, Oct-2003; PackageReference: SDA10A; PackageDescription: LLP, Plastic, Dual, 3 x 3 x 0.8mm Body, 10 Lead, 0.5mm Pitch, No Pullback; RoHS: Y; PinCount: 10; ComponentLink1Description: Manufacturer URL; ComponentLink1URL: http://www.national.com/; ComponentLink2Description: LM2750 Datasheet; ComponentLink2URL: http://www.national.com/ds/LM/LM2750.pdf; ComponentLink3Description: LM2750 Web Page; ComponentLink3URL: http://www.national.com/pf/LM/LM2750.html; ComponentLink4Description: SDA10A Package Page; ComponentLink4URL: http://www.national.com/packaging/folders/sda10a.html
footprint SDA10A (SON, 10-Leads, Body 3x3 mm, Pitch 0.5mm, NSC Recommended)
pins: 1 OUT (power), 2 OUT (power), 3 GND (power), 4 ~{SD} (in), 5 GND (power), 6 GND (power), 7 C1- (in), 8 VIN (power), 9 VIN (power), 10 C1+ (in), 11 DAP (power)

## LM2750SDX-ADJ
designator U?
Low Noise Regulator Switched Capacitor Boost Regulator, 10-pin LLP; PartNumber: LM2750SDX-ADJ; Manufacturer: National Semiconductor; PackageTopMarking: ZXYTT*S004B; PowerWise: N; CompType: Switcher; High-Reliability: Y; DatasheetVersion: Dec-2005; PackageVersion: revA, Oct-2003; PackageReference: SDA10A; PackageDescription: LLP, Plastic, Dual, 3 x 3 x 0.8mm Body, 10 Lead, 0.5mm Pitch, No Pullback; RoHS: N; PinCount: 10; ComponentLink1Description: Manufacturer URL; ComponentLink1URL: http://www.national.com/; ComponentLink2Description: LM2750 Datasheet; ComponentLink2URL: http://www.national.com/ds/LM/LM2750.pdf; ComponentLink3Description: LM2750 Web Page; ComponentLink3URL: http://www.national.com/pf/LM/LM2750.html; ComponentLink4Description: SDA10A Package Page; ComponentLink4URL: http://www.national.com/packaging/folders/sda10a.html
footprint SDA10A (SON, 10-Leads, Body 3x3 mm, Pitch 0.5mm, NSC Recommended)
pins: 1 OUT (power), 2 OUT (power), 3 FB (in), 4 ~{SD} (in), 5 GND (power), 6 GND (power), 7 C1- (in), 8 VIN (power), 9 VIN (power), 10 C1+ (in), 11 DAP (power)

## LM2750SDX-ADJ/NOPB
designator U?
Low Noise Regulator Switched Capacitor Boost Regulator, 10-pin LLP, Pb-Free; PartNumber: LM2750SDX-ADJ/NOPB; Manufacturer: National Semiconductor; PackageTopMarking: ZXYTT*S004B; PowerWise: N; CompType: Switcher; High-Reliability: Y; DatasheetVersion: Dec-2005; PackageVersion: revA, Oct-2003; PackageReference: SDA10A; PackageDescription: LLP, Plastic, Dual, 3 x 3 x 0.8mm Body, 10 Lead, 0.5mm Pitch, No Pullback; RoHS: Y; PinCount: 10; ComponentLink1Description: Manufacturer URL; ComponentLink1URL: http://www.national.com/; ComponentLink2Description: LM2750 Datasheet; ComponentLink2URL: http://www.national.com/ds/LM/LM2750.pdf; ComponentLink3Description: LM2750 Web Page; ComponentLink3URL: http://www.national.com/pf/LM/LM2750.html; ComponentLink4Description: SDA10A Package Page; ComponentLink4URL: http://www.national.com/packaging/folders/sda10a.html
footprint SDA10A (SON, 10-Leads, Body 3x3 mm, Pitch 0.5mm, NSC Recommended)
pins: 1 OUT (power), 2 OUT (power), 3 FB (in), 4 ~{SD} (in), 5 GND (power), 6 GND (power), 7 C1- (in), 8 VIN (power), 9 VIN (power), 10 C1+ (in), 11 DAP (power)

## LM2759SD/NOPB
designator U?
1A Switched Capacitor Flash LED Driver with I2C Compatible Interface, 12-pin LLP, Pb-Free; PartNumber: LM2759SD/NOPB; Manufacturer: National Semiconductor; PackageTopMarking: ZXYTT*L2759; PowerWise: Y; CompType: Switcher; DatasheetVersion: Feb-2010; PackageVersion: revB, Jul-2008; PackageReference: SDF12A; PackageDescription: LLP, Plastic, Dual, 3 x 3 x 0.8mm Body, 12 Lead, 0.4mm Pitch, No Pullback; RoHS: Y; PinCount: 12; High-Reliability: Y; ComponentLink1Description: Manufacturer URL; ComponentLink1URL: http://www.national.com/; ComponentLink2Description: LM2759 Datasheet; ComponentLink2URL: http://www.national.com/ds/LM/LM2759.pdf; ComponentLink3Description: LM2759 Web Page; ComponentLink3URL: http://www.national.com/pf/LM/LM2759.html; ComponentLink4Description: SDF12A Package Page; ComponentLink4URL: http://www.national.com/packaging/folders/sdf12a.html
footprint SDF12A (SON, 12-Leads, Body 3x3mm, Pitch 0.4mm, NSC Recommended)
pins: 1 C2- (in), 2 C2+ (in), 3 VOUT (out), 4 GND (power), 5 TX (in), 6 ISINK (in), 7 STROBE (in), 8 SDA (io), 9 SCL (in), 10 VIN (power), 11 C1+ (in), 12 C1- (in), 13 DAP (power)

## LM2759SDX/NOPB
designator U?
1A Switched Capacitor Flash LED Driver with I2C Compatible Interface, 12-pin LLP, Pb-Free; PartNumber: LM2759SDX/NOPB; Manufacturer: National Semiconductor; PackageTopMarking: ZXYTT*L2759; PowerWise: Y; CompType: Switcher; DatasheetVersion: Feb-2010; PackageVersion: revB, Jul-2008; PackageReference: SDF12A; PackageDescription: LLP, Plastic, Dual, 3 x 3 x 0.8mm Body, 12 Lead, 0.4mm Pitch, No Pullback; RoHS: Y; PinCount: 12; High-Reliability: Y; ComponentLink1Description: Manufacturer URL; ComponentLink1URL: http://www.national.com/; ComponentLink2Description: LM2759 Datasheet; ComponentLink2URL: http://www.national.com/ds/LM/LM2759.pdf; ComponentLink3Description: LM2759 Web Page; ComponentLink3URL: http://www.national.com/pf/LM/LM2759.html; ComponentLink4Description: SDF12A Package Page; ComponentLink4URL: http://www.national.com/packaging/folders/sdf12a.html
footprint SDF12A (SON, 12-Leads, Body 3x3mm, Pitch 0.4mm, NSC Recommended)
pins: 1 C2- (in), 2 C2+ (in), 3 VOUT (out), 4 GND (power), 5 TX (in), 6 ISINK (in), 7 STROBE (in), 8 SDA (io), 9 SCL (in), 10 VIN (power), 11 C1+ (in), 12 C1- (in), 13 DAP (power)

## LM2771SD/NOPB
designator U?
Low-Ripple 250mA Switched Capacitor Step-Down DC/DC Converter, 10-pin LLP, Pb-Free; PartNumber: LM2771SD/NOPB; Manufacturer: National Semiconductor; PackageTopMarking: ZXYTT*L2771; PowerWise: N; CompType: Switcher; High-Reliability: Y; DatasheetVersion: Mar-2006; PackageVersion: revA, Oct-2003; PackageReference: SDA10A; PackageDescription: LLP, Plastic, Dual, 3 x 3 x 0.8mm Body, 10 Lead, 0.5mm Pitch, No Pullback; RoHS: Y; PinCount: 10; ComponentLink1Description: Manufacturer URL; ComponentLink1URL: http://www.national.com/; ComponentLink2Description: LM2771 Datasheet; ComponentLink2URL: http://www.national.com/ds/LM/LM2771.pdf; ComponentLink3Description: LM2771 Web Page; ComponentLink3URL: http://www.national.com/pf/LM/LM2771.html; ComponentLink4Description: SDA10A Package Page; ComponentLink4URL: http://www.national.com/packaging/folders/sda10a.html
footprint SDA10A (SON, 10-Leads, Body 3x3 mm, Pitch 0.5mm, NSC Recommended)
pins: 1 VIN (power), 2 GND (power), 3 VOUT (power), 4 NC, 5 NC, 6 C1- (in), 7 C1+ (in), 8 NC, 9 GND (power), 10 EN (in), 11 DAP (power)

## LM2771SDX
designator U?
Low-Ripple 250mA Switched Capacitor Step-Down DC/DC Converter, 10-pin LLP; PartNumber: LM2771SDX; Manufacturer: National Semiconductor; PackageTopMarking: ZXYTT*L2771; PowerWise: N; CompType: Switcher; High-Reliability: Y; DatasheetVersion: Mar-2006; PackageVersion: revA, Oct-2003; PackageReference: SDA10A; PackageDescription: LLP, Plastic, Dual, 3 x 3 x 0.8mm Body, 10 Lead, 0.5mm Pitch, No Pullback; RoHS: N; PinCount: 10; ComponentLink1Description: Manufacturer URL; ComponentLink1URL: http://www.national.com/; ComponentLink2Description: LM2771 Datasheet; ComponentLink2URL: http://www.national.com/ds/LM/LM2771.pdf; ComponentLink3Description: LM2771 Web Page; ComponentLink3URL: http://www.national.com/pf/LM/LM2771.html; ComponentLink4Description: SDA10A Package Page; ComponentLink4URL: http://www.national.com/packaging/folders/sda10a.html
footprint SDA10A (SON, 10-Leads, Body 3x3 mm, Pitch 0.5mm, NSC Recommended)
pins: 1 VIN (power), 2 GND (power), 3 VOUT (power), 4 NC, 5 NC, 6 C1- (in), 7 C1+ (in), 8 NC, 9 GND (power), 10 EN (in), 11 DAP (power)

## LM2771SDX/NOPB
designator U?
Low-Ripple 250mA Switched Capacitor Step-Down DC/DC Converter, 10-pin LLP, Pb-Free; PartNumber: LM2771SDX/NOPB; Manufacturer: National Semiconductor; PackageTopMarking: ZXYTT*L2771; PowerWise: N; CompType: Switcher; High-Reliability: Y; DatasheetVersion: Mar-2006; PackageVersion: revA, Oct-2003; PackageReference: SDA10A; PackageDescription: LLP, Plastic, Dual, 3 x 3 x 0.8mm Body, 10 Lead, 0.5mm Pitch, No Pullback; RoHS: Y; PinCount: 10; ComponentLink1Description: Manufacturer URL; ComponentLink1URL: http://www.national.com/; ComponentLink2Description: LM2771 Datasheet; ComponentLink2URL: http://www.national.com/ds/LM/LM2771.pdf; ComponentLink3Description: LM2771 Web Page; ComponentLink3URL: http://www.national.com/pf/LM/LM2771.html; ComponentLink4Description: SDA10A Package Page; ComponentLink4URL: http://www.national.com/packaging/folders/sda10a.html
footprint SDA10A (SON, 10-Leads, Body 3x3 mm, Pitch 0.5mm, NSC Recommended)
pins: 1 VIN (power), 2 GND (power), 3 VOUT (power), 4 NC, 5 NC, 6 C1- (in), 7 C1+ (in), 8 NC, 9 GND (power), 10 EN (in), 11 DAP (power)

## LM2772SDX
designator U?
Low-Ripple Switched Capacitor Step-Down Regulator, 10-pin LLP; PartNumber: LM2772SDX; Manufacturer: National Semiconductor; PackageTopMarking: ZXYTT*L2772; PowerWise: N; CompType: Switcher; High-Reliability: Y; DatasheetVersion: Dec-2006; PackageVersion: revA, Oct-2003; PackageReference: SDA10A; PackageDescription: LLP, Plastic, Dual, 3 x 3 x 0.8mm Body, 10 Lead, 0.5mm Pitch, No Pullback; RoHS: N; PinCount: 10; ComponentLink1Description: Manufacturer URL; ComponentLink1URL: http://www.national.com/; ComponentLink2Description: LM2772 Datasheet; ComponentLink2URL: http://www.national.com/ds/LM/LM2772.pdf; ComponentLink3Description: LM2772 Web Page; ComponentLink3URL: http://www.national.com/pf/LM/LM2772.html; ComponentLink4Description: SDA10A Package Page; ComponentLink4URL: http://www.national.com/packaging/folders/sda10a.html
footprint SDA10A (SON, 10-Leads, Body 3x3 mm, Pitch 0.5mm, NSC Recommended)
pins: 1 VIN (power), 2 GND (power), 3 OUT (power), 4 C3- (in), 5 C3+ (in), 6 C2- (in), 7 C2+ (in), 8 C1- (in), 9 C1+ (in), 10 EN (in), 11 DAP (power)

## LM2772SDX/NOPB
designator U?
Low-Ripple Switched Capacitor Step-Down Regulator, 10-pin LLP, Pb-Free; PartNumber: LM2772SDX/NOPB; Manufacturer: National Semiconductor; PackageTopMarking: ZXYTT*L2772; PowerWise: N; CompType: Switcher; High-Reliability: Y; DatasheetVersion: Dec-2006; PackageVersion: revA, Oct-2003; PackageReference: SDA10A; PackageDescription: LLP, Plastic, Dual, 3 x 3 x 0.8mm Body, 10 Lead, 0.5mm Pitch, No Pullback; RoHS: Y; PinCount: 10; ComponentLink1Description: Manufacturer URL; ComponentLink1URL: http://www.national.com/; ComponentLink2Description: LM2772 Datasheet; ComponentLink2URL: http://www.national.com/ds/LM/LM2772.pdf; ComponentLink3Description: LM2772 Web Page; ComponentLink3URL: http://www.national.com/pf/LM/LM2772.html; ComponentLink4Description: SDA10A Package Page; ComponentLink4URL: http://www.national.com/packaging/folders/sda10a.html
footprint SDA10A (SON, 10-Leads, Body 3x3 mm, Pitch 0.5mm, NSC Recommended)
pins: 1 VIN (power), 2 GND (power), 3 OUT (power), 4 C3- (in), 5 C3+ (in), 6 C2- (in), 7 C2+ (in), 8 C1- (in), 9 C1+ (in), 10 EN (in), 11 DAP (power)

## LM2773TLX/NOPB
designator U?
Low-Ripple 1.8V/1.6V Spread-Spectrum Switched Capacitor Step-Down Regulator, 9-pin Micro SMD, Pb-Free; PartNumber: LM2773TLX/NOPB; Manufacturer: National Semiconductor; PackageTopMarking: XV*I DJ; PowerWise: N; CompType: Switcher; High-Reliability: Y; DatasheetVersion: Jan-2008; PackageVersion: revC, Jan-2004; PackageReference: TLA09ZZA; PackageDescription: Thin Micro SMD, 9 Bump (Large), 0.5mm Pitch; RoHS: Y; PinCount: 9; Code_JEDEC: MO-211-DD; ComponentLink1Description: Manufacturer URL; ComponentLink1URL: http://www.national.com/; ComponentLink2Description: LM2773 Datasheet; ComponentLink2URL: http://www.national.com/ds/LM/LM2773.pdf; ComponentLink3Description: LM2773 Web Page; ComponentLink3URL: http://www.national.com/pf/LM/LM2773.html; ComponentLink4Description: TLA09ZZA Package Page; ComponentLink4URL: http://www.national.com/packaging/folders/tla09zza.html
footprint TLA09ZZA (Micro SMD, 9-Leads, Body 1.47x1.47mm, Pitch 0.5mm, NSC Recommended)
pins: A1 C2- (in), A2 OUT (power), A3 C1+ (in), B1 GND (power), B2 EN (in), B3 VIN (power), C1 SEL (in), C2 C1- (in), C3 C2+ (in)

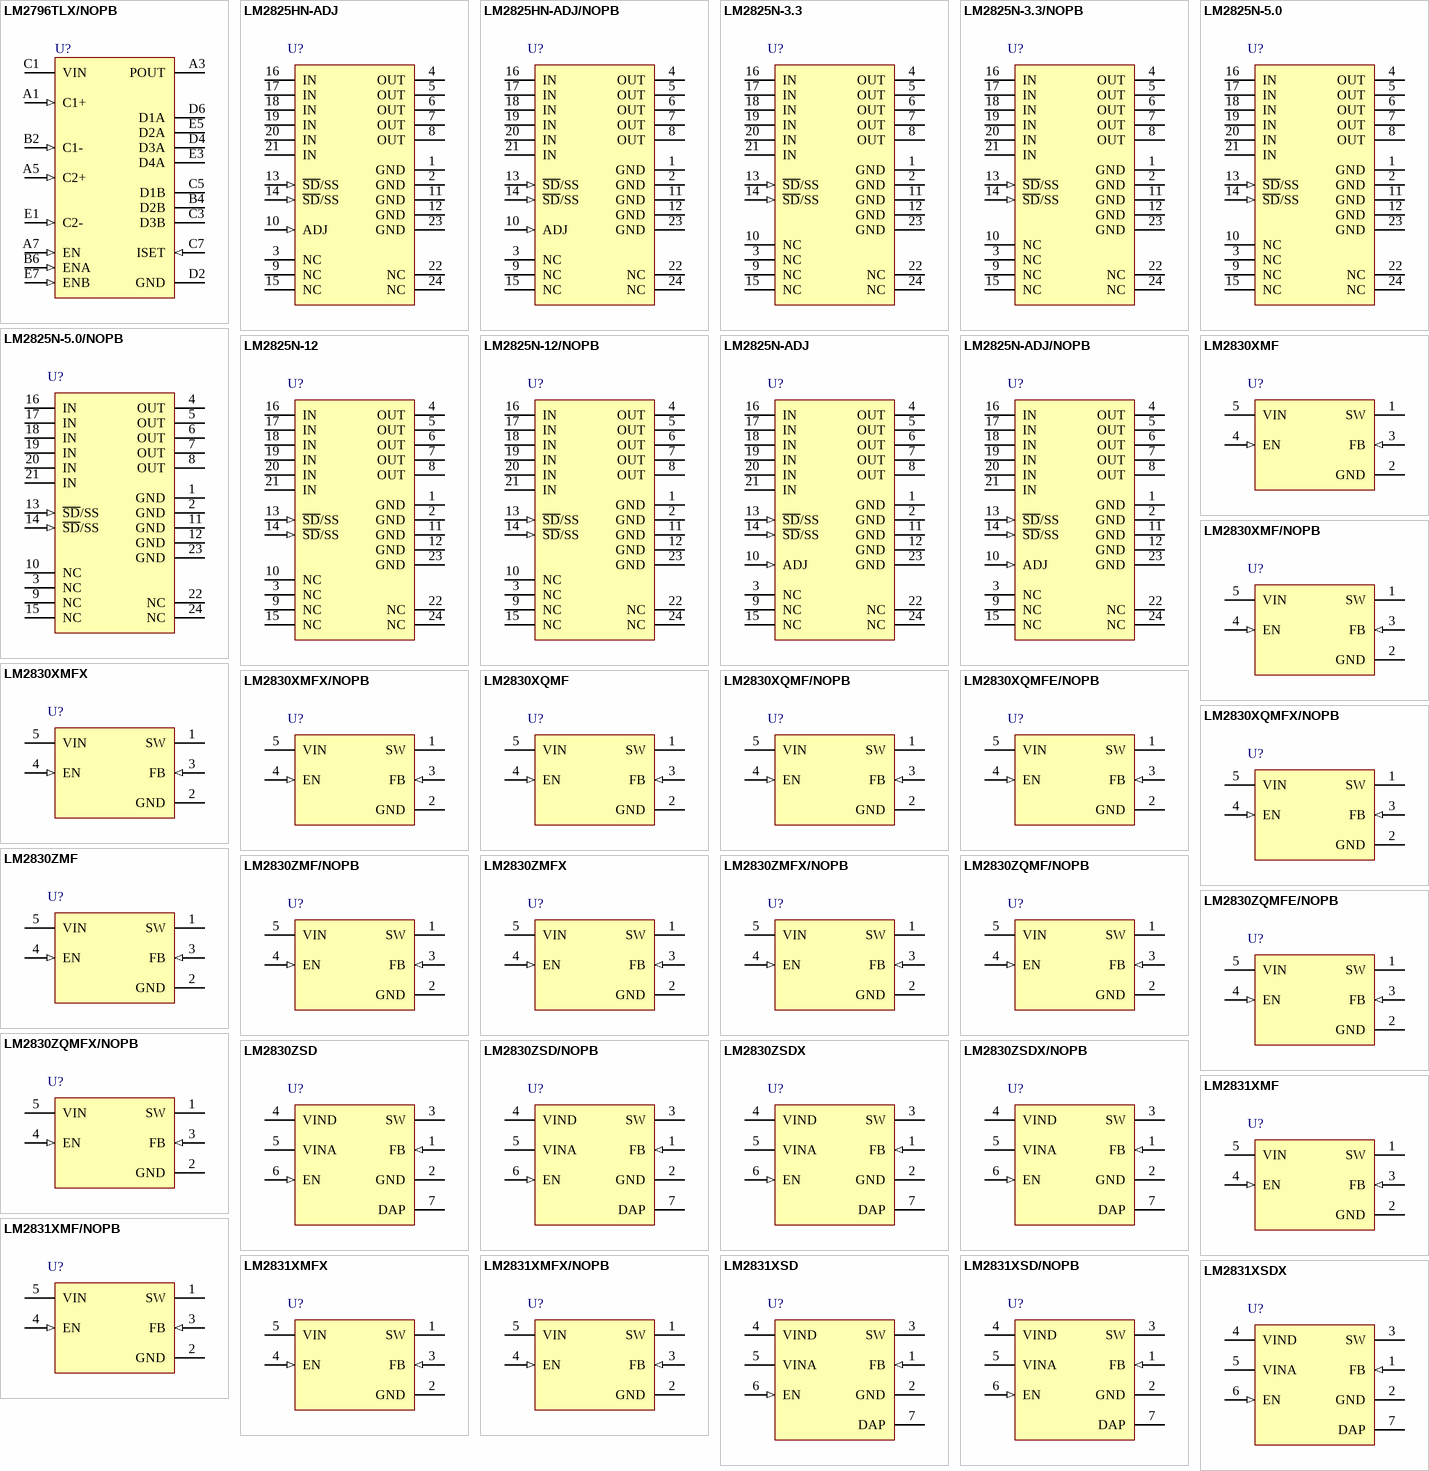
[diagram p27: symbols LM2796TLX/NOPB to LM2831XSDX]

## LM2796TLX/NOPB
designator U?
Dual-Display White LED Driver with 3/2x Switched Capacitor Boost, 18-pin Micro SMD, Pb-Free; PartNumber: LM2796TLX/NOPB; Manufacturer: National Semiconductor; PackageTopMarking: XYTT*I SAJB; PowerWise: Y; CompType: Switcher; DatasheetVersion: Feb-2004; PackageVersion: revD, Jan-2005; PackageReference: TLA18EHA; PackageDescription: Thin Micro SMD, 18 Bump (Large), 0.5mm Pitch; RoHS: Y; PinCount: 18; High-Reliability: Y; ComponentLink1Description: Manufacturer URL; ComponentLink1URL: http://www.national.com/; ComponentLink2Description: LM2796 Datasheet; ComponentLink2URL: http://www.national.com/ds/LM/LM2796.pdf; ComponentLink3Description: LM2796 Web Page; ComponentLink3URL: http://www.national.com/pf/LM/LM2796.html; ComponentLink4Description: TLA18EHA Package Page; ComponentLink4URL: http://www.national.com/packaging/folders/tla18eha.html
footprint TLA18EHA (Micro SMD, 18-Leads, Body 2.4x2.1mm, Pitch 0.5mm, NSC Recommended)
pins: A1 C1+ (in), A3 POUT (power), A5 C2+ (in), A7 EN (in), B2 C1- (in), B4 D2B (oc), B6 ENA (in), C1 VIN (power), C3 D3B (oc), C5 D1B (oc), C7 ISET (in), D2 GND (power), D4 D3A (oc), D6 D1A (oc), E1 C2- (in), E3 D4A (oc), E5 D2A (oc), E7 ENB (in)

## LM2825HN-ADJ
designator U?
Integrated Power Supply 1A DC-DC Converter, 24-pin MDIP; PartNumber: LM2825HN-ADJ; Manufacturer: National Semiconductor; PackageTopMarking: @SIMPLE SWITCHERTM*ZXXYYTT*LM2825HN-ADJ*ADJ, 1A OUTPUT; PowerWise: N; CompType: Switcher; High-Reliability: Y; DatasheetVersion: May-1997; PackageVersion: revD, Feb-1996; PackageReference: NA24F; PackageDescription: Molded Dip, 24 Lead, IPS1; RoHS: N; PinCount: 24; ComponentLink1Description: Manufacturer URL; ComponentLink1URL: http://www.national.com/; ComponentLink2Description: LM2825 Datasheet; ComponentLink2URL: http://www.national.com/ds/LM/LM2825.pdf; ComponentLink3Description: LM2825 Web Page; ComponentLink3URL: http://www.national.com/pf/LM/LM2825.html; ComponentLink4Description: NA24F Package Page; ComponentLink4URL: http://www.national.com/packaging/folders/na24f.html
footprint NA24F (DIP, 24-Leads, Row Spacing 15.24mm, Pitch 2.54mm, Body 31.75x13.72mm)
pins: 1 GND (power), 2 GND (power), 3 NC, 4 OUT (power), 5 OUT (power), 6 OUT (power), 7 OUT (power), 8 OUT (power), 9 NC, 10 ADJ (in), 11 GND (power), 12 GND (power), 13 ~{SD}/SS (in), 14 ~{SD}/SS (in), 15 NC, 16 IN (power), 17 IN (power), 18 IN (power), 19 IN (power), 20 IN (power), 21 IN (power), 22 NC, 23 GND (power), 24 NC

## LM2825HN-ADJ/NOPB
designator U?
Integrated Power Supply 1A DC-DC Converter, 24-pin MDIP, Pb-Free; PartNumber: LM2825HN-ADJ/NOPB; Manufacturer: National Semiconductor; PackageTopMarking: @SIMPLE SWITCHERTM*ZXXYYTT*LM2825HN-ADJ*ADJ, 1A OUTPUT; PowerWise: N; CompType: Switcher; High-Reliability: Y; DatasheetVersion: May-1997; PackageVersion: revD, Feb-1996; PackageReference: NA24F; PackageDescription: Molded Dip, 24 Lead, IPS1; RoHS: Y; PinCount: 24; ComponentLink1Description: Manufacturer URL; ComponentLink1URL: http://www.national.com/; ComponentLink2Description: LM2825 Datasheet; ComponentLink2URL: http://www.national.com/ds/LM/LM2825.pdf; ComponentLink3Description: LM2825 Web Page; ComponentLink3URL: http://www.national.com/pf/LM/LM2825.html; ComponentLink4Description: NA24F Package Page; ComponentLink4URL: http://www.national.com/packaging/folders/na24f.html
footprint NA24F (DIP, 24-Leads, Row Spacing 15.24mm, Pitch 2.54mm, Body 31.75x13.72mm)
pins: 1 GND (power), 2 GND (power), 3 NC, 4 OUT (power), 5 OUT (power), 6 OUT (power), 7 OUT (power), 8 OUT (power), 9 NC, 10 ADJ (in), 11 GND (power), 12 GND (power), 13 ~{SD}/SS (in), 14 ~{SD}/SS (in), 15 NC, 16 IN (power), 17 IN (power), 18 IN (power), 19 IN (power), 20 IN (power), 21 IN (power), 22 NC, 23 GND (power), 24 NC

## LM2825N-3.3
designator U?
Integrated Power Supply 1A DC-DC Converter, 24-pin MDIP; PartNumber: LM2825N-3.3; Manufacturer: National Semiconductor; PackageTopMarking: @SIMPLE SWITCHERTM*ZXXYYTT*LM2825N-3.3*3.3V, 1A OUTPUT; PowerWise: N; CompType: Switcher; High-Reliability: Y; DatasheetVersion: May-1997; PackageVersion: revD, Feb-1996; PackageReference: NA24F; PackageDescription: Molded Dip, 24 Lead, IPS1; RoHS: N; PinCount: 24; ComponentLink1Description: Manufacturer URL; ComponentLink1URL: http://www.national.com/; ComponentLink2Description: LM2825 Datasheet; ComponentLink2URL: http://www.national.com/ds/LM/LM2825.pdf; ComponentLink3Description: LM2825 Web Page; ComponentLink3URL: http://www.national.com/pf/LM/LM2825.html; ComponentLink4Description: NA24F Package Page; ComponentLink4URL: http://www.national.com/packaging/folders/na24f.html
footprint NA24F (DIP, 24-Leads, Row Spacing 15.24mm, Pitch 2.54mm, Body 31.75x13.72mm)
pins: 1 GND (power), 2 GND (power), 3 NC, 4 OUT (power), 5 OUT (power), 6 OUT (power), 7 OUT (power), 8 OUT (power), 9 NC, 10 NC, 11 GND (power), 12 GND (power), 13 ~{SD}/SS (in), 14 ~{SD}/SS (in), 15 NC, 16 IN (power), 17 IN (power), 18 IN (power), 19 IN (power), 20 IN (power), 21 IN (power), 22 NC, 23 GND (power), 24 NC

## LM2825N-3.3/NOPB
designator U?
Integrated Power Supply 1A DC-DC Converter, 24-pin MDIP, Pb-Free; PartNumber: LM2825N-3.3/NOPB; Manufacturer: National Semiconductor; PackageTopMarking: @SIMPLE SWITCHERTM*ZXXYYTT*LM2825N-3.3*3.3V, 1A OUTPUT; PowerWise: N; CompType: Switcher; High-Reliability: Y; DatasheetVersion: May-1997; PackageVersion: revD, Feb-1996; PackageReference: NA24F; PackageDescription: Molded Dip, 24 Lead, IPS1; RoHS: Y; PinCount: 24; ComponentLink1Description: Manufacturer URL; ComponentLink1URL: http://www.national.com/; ComponentLink2Description: LM2825 Datasheet; ComponentLink2URL: http://www.national.com/ds/LM/LM2825.pdf; ComponentLink3Description: LM2825 Web Page; ComponentLink3URL: http://www.national.com/pf/LM/LM2825.html; ComponentLink4Description: NA24F Package Page; ComponentLink4URL: http://www.national.com/packaging/folders/na24f.html
footprint NA24F (DIP, 24-Leads, Row Spacing 15.24mm, Pitch 2.54mm, Body 31.75x13.72mm)
pins: 1 GND (power), 2 GND (power), 3 NC, 4 OUT (power), 5 OUT (power), 6 OUT (power), 7 OUT (power), 8 OUT (power), 9 NC, 10 NC, 11 GND (power), 12 GND (power), 13 ~{SD}/SS (in), 14 ~{SD}/SS (in), 15 NC, 16 IN (power), 17 IN (power), 18 IN (power), 19 IN (power), 20 IN (power), 21 IN (power), 22 NC, 23 GND (power), 24 NC

## LM2825N-5.0
designator U?
Integrated Power Supply 1A DC-DC Converter, 24-pin MDIP; PartNumber: LM2825N-5.0; Manufacturer: National Semiconductor; PackageTopMarking: @SIMPLE SWITCHERTM*ZXXYYTT*LM2825N-5.0*5.0V, 1A OUTPUT; PowerWise: N; CompType: Switcher; High-Reliability: Y; DatasheetVersion: May-1997; PackageVersion: revD, Feb-1996; PackageReference: NA24F; PackageDescription: Molded Dip, 24 Lead, IPS1; RoHS: N; PinCount: 24; ComponentLink1Description: Manufacturer URL; ComponentLink1URL: http://www.national.com/; ComponentLink2Description: LM2825 Datasheet; ComponentLink2URL: http://www.national.com/ds/LM/LM2825.pdf; ComponentLink3Description: LM2825 Web Page; ComponentLink3URL: http://www.national.com/pf/LM/LM2825.html; ComponentLink4Description: NA24F Package Page; ComponentLink4URL: http://www.national.com/packaging/folders/na24f.html
footprint NA24F (DIP, 24-Leads, Row Spacing 15.24mm, Pitch 2.54mm, Body 31.75x13.72mm)
pins: 1 GND (power), 2 GND (power), 3 NC, 4 OUT (power), 5 OUT (power), 6 OUT (power), 7 OUT (power), 8 OUT (power), 9 NC, 10 NC, 11 GND (power), 12 GND (power), 13 ~{SD}/SS (in), 14 ~{SD}/SS (in), 15 NC, 16 IN (power), 17 IN (power), 18 IN (power), 19 IN (power), 20 IN (power), 21 IN (power), 22 NC, 23 GND (power), 24 NC

## LM2825N-5.0/NOPB
designator U?
Integrated Power Supply 1A DC-DC Converter, 24-pin MDIP, Pb-Free; PartNumber: LM2825N-5.0/NOPB; Manufacturer: National Semiconductor; PackageTopMarking: @SIMPLE SWITCHERTM*ZXXYYTT*LM2825N-5.0*5.0V, 1A OUTPUT; PowerWise: N; CompType: Switcher; High-Reliability: Y; DatasheetVersion: May-1997; PackageVersion: revD, Feb-1996; PackageReference: NA24F; PackageDescription: Molded Dip, 24 Lead, IPS1; RoHS: Y; PinCount: 24; ComponentLink1Description: Manufacturer URL; ComponentLink1URL: http://www.national.com/; ComponentLink2Description: LM2825 Datasheet; ComponentLink2URL: http://www.national.com/ds/LM/LM2825.pdf; ComponentLink3Description: LM2825 Web Page; ComponentLink3URL: http://www.national.com/pf/LM/LM2825.html; ComponentLink4Description: NA24F Package Page; ComponentLink4URL: http://www.national.com/packaging/folders/na24f.html
footprint NA24F (DIP, 24-Leads, Row Spacing 15.24mm, Pitch 2.54mm, Body 31.75x13.72mm)
pins: 1 GND (power), 2 GND (power), 3 NC, 4 OUT (power), 5 OUT (power), 6 OUT (power), 7 OUT (power), 8 OUT (power), 9 NC, 10 NC, 11 GND (power), 12 GND (power), 13 ~{SD}/SS (in), 14 ~{SD}/SS (in), 15 NC, 16 IN (power), 17 IN (power), 18 IN (power), 19 IN (power), 20 IN (power), 21 IN (power), 22 NC, 23 GND (power), 24 NC

## LM2825N-12
designator U?
Integrated Power Supply 1A DC-DC Converter, 24-pin MDIP; PartNumber: LM2825N-12; Manufacturer: National Semiconductor; PackageTopMarking: @SIMPLE SWITCHERTM*ZXXYYTT*LM2825N-12*12V, 1A OUTPUT; PowerWise: N; CompType: Switcher; High-Reliability: Y; DatasheetVersion: May-1997; PackageVersion: revD, Feb-1996; PackageReference: NA24F; PackageDescription: Molded Dip, 24 Lead, IPS1; RoHS: N; PinCount: 24; ComponentLink1Description: Manufacturer URL; ComponentLink1URL: http://www.national.com/; ComponentLink2Description: LM2825 Datasheet; ComponentLink2URL: http://www.national.com/ds/LM/LM2825.pdf; ComponentLink3Description: LM2825 Web Page; ComponentLink3URL: http://www.national.com/pf/LM/LM2825.html; ComponentLink4Description: NA24F Package Page; ComponentLink4URL: http://www.national.com/packaging/folders/na24f.html
footprint NA24F (DIP, 24-Leads, Row Spacing 15.24mm, Pitch 2.54mm, Body 31.75x13.72mm)
pins: 1 GND (power), 2 GND (power), 3 NC, 4 OUT (power), 5 OUT (power), 6 OUT (power), 7 OUT (power), 8 OUT (power), 9 NC, 10 NC, 11 GND (power), 12 GND (power), 13 ~{SD}/SS (in), 14 ~{SD}/SS (in), 15 NC, 16 IN (power), 17 IN (power), 18 IN (power), 19 IN (power), 20 IN (power), 21 IN (power), 22 NC, 23 GND (power), 24 NC

## LM2825N-12/NOPB
designator U?
Integrated Power Supply 1A DC-DC Converter, 24-pin MDIP, Pb-Free; PartNumber: LM2825N-12/NOPB; Manufacturer: National Semiconductor; PackageTopMarking: @SIMPLE SWITCHERTM*ZXXYYTT*LM2825N-12*12V, 1A OUTPUT; PowerWise: N; CompType: Switcher; High-Reliability: Y; DatasheetVersion: May-1997; PackageVersion: revD, Feb-1996; PackageReference: NA24F; PackageDescription: Molded Dip, 24 Lead, IPS1; RoHS: Y; PinCount: 24; ComponentLink1Description: Manufacturer URL; ComponentLink1URL: http://www.national.com/; ComponentLink2Description: LM2825 Datasheet; ComponentLink2URL: http://www.national.com/ds/LM/LM2825.pdf; ComponentLink3Description: LM2825 Web Page; ComponentLink3URL: http://www.national.com/pf/LM/LM2825.html; ComponentLink4Description: NA24F Package Page; ComponentLink4URL: http://www.national.com/packaging/folders/na24f.html
footprint NA24F (DIP, 24-Leads, Row Spacing 15.24mm, Pitch 2.54mm, Body 31.75x13.72mm)
pins: 1 GND (power), 2 GND (power), 3 NC, 4 OUT (power), 5 OUT (power), 6 OUT (power), 7 OUT (power), 8 OUT (power), 9 NC, 10 NC, 11 GND (power), 12 GND (power), 13 ~{SD}/SS (in), 14 ~{SD}/SS (in), 15 NC, 16 IN (power), 17 IN (power), 18 IN (power), 19 IN (power), 20 IN (power), 21 IN (power), 22 NC, 23 GND (power), 24 NC

## LM2825N-ADJ
designator U?
Integrated Power Supply 1A DC-DC Converter, 24-pin MDIP; PartNumber: LM2825N-ADJ; Manufacturer: National Semiconductor; PackageTopMarking: @SIMPLE SWITCHERTM*ZXXYYTT*LM2825N-ADJ*ADJ, 1A OUTPUT; PowerWise: N; CompType: Switcher; High-Reliability: Y; DatasheetVersion: May-1997; PackageVersion: revD, Feb-1996; PackageReference: NA24F; PackageDescription: Molded Dip, 24 Lead, IPS1; RoHS: N; PinCount: 24; ComponentLink1Description: Manufacturer URL; ComponentLink1URL: http://www.national.com/; ComponentLink2Description: LM2825 Datasheet; ComponentLink2URL: http://www.national.com/ds/LM/LM2825.pdf; ComponentLink3Description: LM2825 Web Page; ComponentLink3URL: http://www.national.com/pf/LM/LM2825.html; ComponentLink4Description: NA24F Package Page; ComponentLink4URL: http://www.national.com/packaging/folders/na24f.html
footprint NA24F (DIP, 24-Leads, Row Spacing 15.24mm, Pitch 2.54mm, Body 31.75x13.72mm)
pins: 1 GND (power), 2 GND (power), 3 NC, 4 OUT (power), 5 OUT (power), 6 OUT (power), 7 OUT (power), 8 OUT (power), 9 NC, 10 ADJ (in), 11 GND (power), 12 GND (power), 13 ~{SD}/SS (in), 14 ~{SD}/SS (in), 15 NC, 16 IN (power), 17 IN (power), 18 IN (power), 19 IN (power), 20 IN (power), 21 IN (power), 22 NC, 23 GND (power), 24 NC